# Altium schematic symbol library Schlib1.SchLib: 1 symbol
Pins are listed as number, name and electrical type; pins without a type are passive.

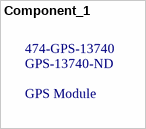
[diagram p0: symbol Component_1]

## Component_1
designator GPS-13740-ND, comment GPS Module  Supplier Part Number 1: 474-GPS-13740
GPS RECEIVER MODULE GP-20U7; Manufacturer: SparkFun; Manufacturer Part Number: GPS-13740; Interface: UART; Frequency: 1.575GHz; Sensitivity: -163dBm; Supplier 1: Mouser; RoHS: No; Category: RF Receivers, Transceivers; Stock 1: 77; Pricing 1: 1=19.04000, 10=19.04000, 50=19.04000, 100=19.04000, 1000=19.04000, 10000=19.04000 (USD); Case/Package: Module; Min Operating Temperature: -40°C; Max Operating Temperature: 85°C; Packaging: Bulk; ComponentLink1URL: https://cdn.sparkfun.com/datasheets/GPS/GP-20U7.pdf?src-supplier=Digi-Key; ComponentLink1Description: https://cdn.sparkfun.com/datasheets/GPS/GP-20U7.pdf?src-supplier=Digi-Key